# Altium schematic symbol library DCDC_5V.SchLib: 10 symbols
Pins are listed as number, name and electrical type; pins without a type are passive.

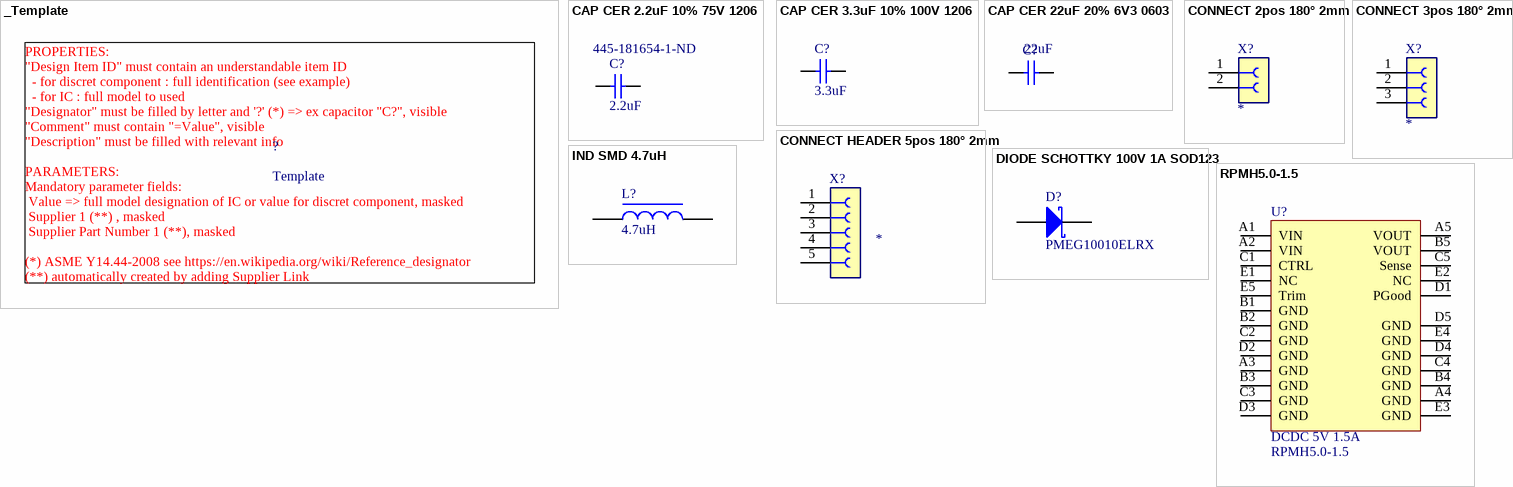
[diagram p0: symbols _Template to RPMH5.0-1.5]

## _Template
designator ?, comment Template
Template component; Value: Template
footprint _Template (Template component)
text: PROPERTIES: / "Design Item ID"	must contain an understandable item ID / - for discret component : full identification (see example) / - for IC : full model to used / "Designator"	must be filled by letter and '?' (*) => ex capacitor "C?", visible / "Comment"	must contain "=Value", visible / "Description"	must be filled with relevant info / PARAMETERS: / Mandatory parameter fields: / Value => full model designation of IC or value for discret component, masked / Supplier 1 (**) , masked / Supplier Part Number 1 (**), masked / (*) ASME Y14.44-2008 see https://en.wikipedia.org/wiki/Reference_designator / (**) automatically created by adding Supplier Link /

## CAP CER 2.2uF 10% 75V 1206
designator C?, comment value 2.2uF  Supplier Part Number 1: 445-181654-1-ND  (hidden comment: CAP CER 2.2uF 1206)
2,2µF ±10% 75V Condensateurs céramique X7R 1206 (3216 métrique); Supplier 1: Digi-Key
footprint CAPC3216X19N (Chip Capacitor, 2-Leads, Body 3.20x1.65mm, IPC Medium Density)
pins: 1, 2

## CAP CER 3.3uF 10% 100V 1206
designator C?, comment value 3.3uF  (hidden comment: CAP CER 3.3uF 1206)
3,3µF ±10% 100V Condensateurs céramique X7S 1206 (3216 métrique); Supplier 1: Digi-Key; Supplier Part Number 1: 445-15583-1-ND
footprint CAPC3216X19N (Chip Capacitor, 2-Leads, Body 3.20x1.65mm, IPC Medium Density)
pins: 1, 2

## CAP CER 22uF 20% 6V3 0603
designator C?, comment value 22uF  (hidden comment: CAP CER 22uF 0603)
22µF ±20% 6,3V Condensateurs céramique X5R 0603 (1608 métrique)
footprint CAPC1608X08N (Chip Capacitor, 2-Leads, Body 1.60x0.80mm, IPC Medium Density)
pins: 1, 2

## CONNECT 2pos 180° 2mm
designator X?, comment CONNECT 2pos 180°  (value not drawn)
Value: WR-TBL322; Supplier 1: Newark; Supplier Part Number 1: 99AH1144; Use: *
footprint 62000611821 - 2pin (Socket Header, Pitch 2.00 mm, THT, Vertical, single row, 6p)
pins: 1, 2

## CONNECT 3pos 180° 2mm
designator X?, comment CONNECT 3pos 180°  (value not drawn)
Value: WR-PHD 62000611821; Use: *
footprint 62000611821 - 3pin (Socket Header, Pitch 2.00 mm, THT, Vertical, single row, 6p)
pins: 1, 2, 3

## CONNECT HEADER 5pos 180° 2mm
designator X?, comment CONNECT HEADER 5pos 180°  (value not drawn)
Value: *; Use: *
footprint 62000611821 - 5pin (Socket Header, Pitch 2.00 mm, THT, Vertical, single row, 6p)
pins: 1, 2, 3, 4, 5

## DIODE SCHOTTKY 100V 1A SOD123
designator D?, comment value PMEG10010ELRX  (hidden comment: DIODE SCHOTTKY SOD123)
Diode Schottky 100V 1A Montage en surface CFP3; Supplier 1: Digi-Key; Supplier Part Number 1: 1727-2394-1-ND
footprint DIOM2617X11N (Molded Diode, 2-Leads, Body 2.60x1.70mm, IPC Medium Density)
pins: 1 K, 2 A

## IND SMD 4.7uH
designator L?, comment value 4.7uH  (hidden comment: IND SMD 2020)
4,7µH Blindé Inducteur 1,5A 190mOhms maxi 1008 (2520 métrique); Supplier 1: Digi-Key; Supplier Part Number 1: 490-13051-1-ND
footprint INDC2520X12N (Chip Inductor, 2-Leads, Body 2.50x2.00mm, IPC Medium Density)
pins: 1, 2

## RPMH5.0-1.5
designator U?, comment DCDC 5V 1.5A  value RPMH5.0-1.5
footprint CONV_RPMH5.0-1.5
pins: A1 VIN (power), A2 VIN (power), A3 GND (power), A4 GND (power), A5 VOUT (power), B1 GND (power), B2 GND (power), B3 GND (power), B4 GND (power), B5 VOUT (power), C1 CTRL (power), C2 GND (power), C3 GND (power), C4 GND (power), C5 Sense (power), D1 PGood (power), D2 GND (power), D3 GND (power), D4 GND (power), D5 GND (power), E1 NC (power), E2 NC (power), E3 GND (power), E4 GND (power), E5 Trim (power)